# Altium footprint library Components - 14.02.24 - 09.37.PcbLib: 1 footprints
Each footprint in its own frame and in the unit in brackets; x right, y up, seen from the top. Pads: shape width x height; smd on the part's side, far side on the other; paste and mask are expansions set on the pad; w line width, h text height; cw(c..) or ccw(c..) is an arc to the next point about the centre after c.
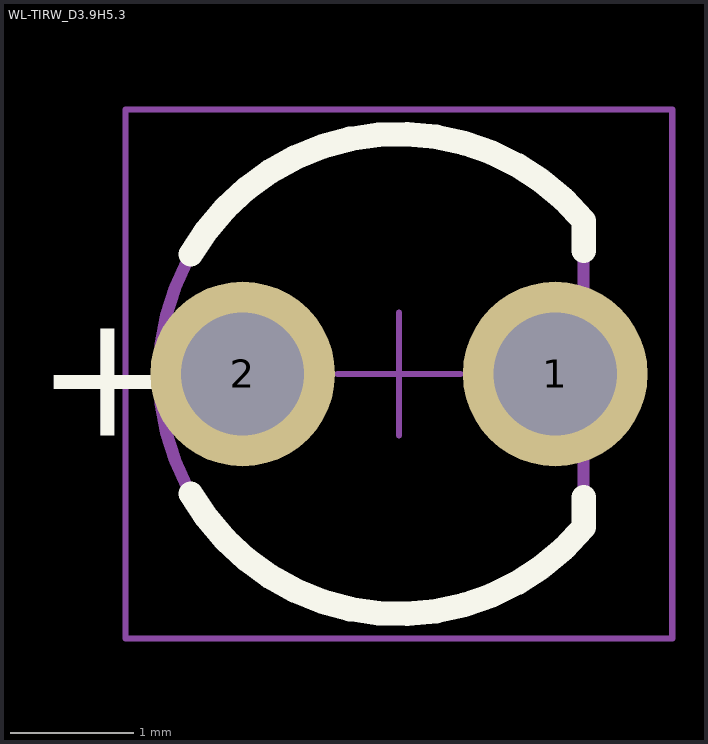
[diagram p0: the footprint, top view; thin cyan lines are the x and y axes]

## WL-TIRW_D3.9H5.3 [mm] "THT Infrared Round Waterclear, body diameter 3.9mm"
height 5.3
pads (2):
  round 1.5 hole 1: 1(-1268.73,-1270) 2(-1271.27,-1270)
Top Overlay:
  lines w0.2: -1271.69,-1270.973 ccw(c-1270,-1270) -1268.5,-1271.245 -1268.5,-1271 ; -1271.69,-1269.027 cw(c-1270,-1270) -1268.5,-1268.755 -1268.5,-1269
  text "+" at -1272.95,-1270.5 h1.02
Top Designator:
  text ".Designator" at -1273.999,-1270.267 h0.8
Top Component Outline:
  lines w0.1: -1268.5,-1271.245 cw(c-1270,-1270) -1268.5,-1268.755 ; -1268.5,-1271.245 -1268.5,-1268.755
Top 3D Body:
  lines w0.1: -1268.5,-1271.245 cw(c-1270,-1270) -1268.5,-1268.755 ; -1268.5,-1271.245 -1268.5,-1268.755
Top Courtyard:
  lines w0.05: -1270.5,-1270 -1269.5,-1270 ; -1270,-1270.5 -1270,-1269.5 ; -1272.22,-1272.15 -1267.78,-1272.15 -1267.78,-1267.85 -1272.22,-1267.85 -1272.22,-1272.15
3D body "154003xxx.stp": height 5.33, standoff -26.37, extent -1271.95,-1271.949 -1268.38,-1268.05